# Altium schematic symbol library SoftRobotics.SchLib: 5 symbols
Pins are listed as number, name and electrical type; pins without a type are passive.

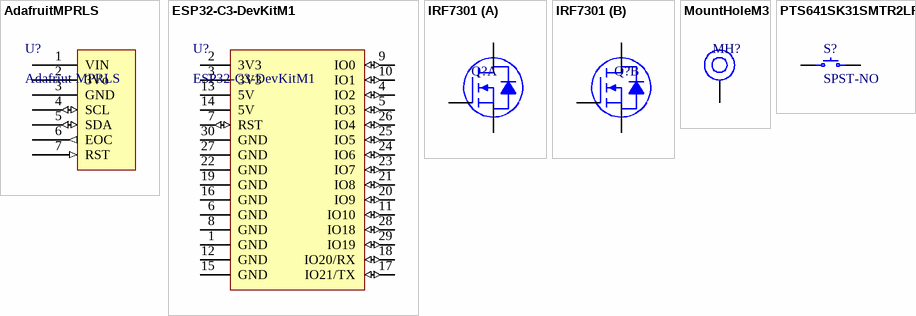
[diagram p0: symbols AdafruitMPRLS to PTS641SK31SMTR2LFS]

## AdafruitMPRLS
designator U?, comment Adafriut MPRLS
Supplier Part Number 1: 1528-2713-ND; Supplier 1: DigiKey
footprint ADAFRUITMPRLS
pins: 1 VIN (power), 2 3Vo (power), 3 GND (power), 4 SCL (io), 5 SDA (io), 6 EOC (out), 7 RST (in)

## ESP32-C3-DevKitM1
designator U?
Manufactuer Part Number: ESP32-C3-DEVKITM-1; Supplier 1: DigiKey; Supplier Part Number 1: 1965-ESP32-C3-DEVKITM-1-ND
footprint ESP32-C3-DevKitM1
pins: 1 GND (power), 2 3V3 (power), 3 3V3 (power), 4 IO2 (io), 5 IO3 (io), 6 GND (power), 7 RST (io), 8 GND (power), 9 IO0 (io), 10 IO1 (io), 11 IO10 (io), 12 GND (power), 13 5V (power), 14 5V (power), 15 GND (power), 16 GND (power), 17 IO21/TX (io), 18 IO20/RX (io), 19 GND (power), 20 IO9 (io), 21 IO8 (io), 22 GND (power), 23 IO7 (io), 24 IO6 (io), 25 IO5 (io), 26 IO4 (io), 27 GND (power), 28 IO18 (io), 29 IO19 (io), 30 GND (power)

## IRF7301
designator Q?
Supplier 1: DigiKey; Supplier Part Number 1: IRF7301PBFCT-ND
footprint IRF7301 (SOP, 8-Leads, Body 4.90x3.90mm, Pitch 1.27mm, IPC Medium Density)
part A pins: 1 S1, 2 G1, 7 D1, 8 D1
part B pins: 3 S2, 4 G2, 5 D2, 6 D3

## MountHoleM3
designator MH?  (no BOM)
footprint MountHoleM3
pins: 1

## PTS641SK31SMTR2LFS
designator S?, comment SPST-NO
Supplier 1: DigiKey; Supplier Part Number 1: CKN10810CT-ND
footprint PTS641SK31SMTR2LFS (SPST Push Button)
signal-integrity model Model Name (Model Description)
pins: 1, 2, 3, 4